# Altium footprint library PcbLibraryModelBoard.PcbLib: 17 footprints (part 2 of 2)
Each footprint in its own frame and in the unit in brackets; x right, y up, seen from the top. Pads: shape width x height; smd on the part's side, far side on the other; paste and mask are expansions set on the pad; w line width, h text height; cw(c..) or ccw(c..) is an arc to the next point about the centre after c.
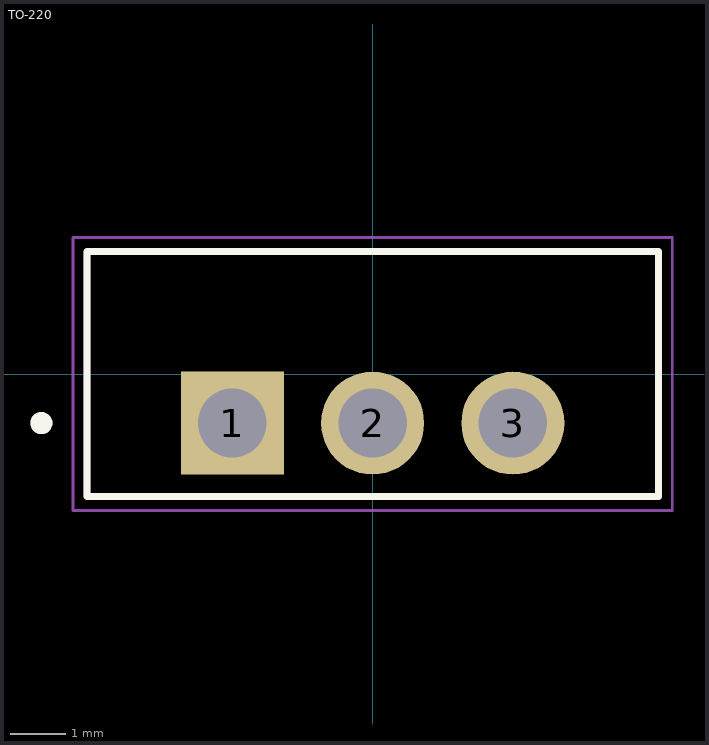
[diagram p1: the footprint, top view; thin cyan lines are the x and y axes]

## TO-220 [mil] "TO254P1035X444X2115-3N)"
height 833.07
pads (3):
  rect 73.5x73.5 / inner round 73.5 / far side rect 73.5x73.5 hole 49: 1(-100,-35)
  round 73.5 hole 49: 2(0,-35) 3(100,-35)
Top Overlay:
  circle w7.87: c-236.22,-35 r3.94
  lines w5: -203.75,-87.5 203.75,-87.5 203.75,87.5 -203.75,87.5 -203.75,-87.5
Mechanical 13:
  circle w7.87: c-236.22,-35 r3.94
  lines w5: -203.75,-87.5 203.75,-87.5 203.75,87.5 -203.75,87.5 -203.75,-87.5
Mechanical 15:
  lines w1.97: -213.59,-97.34 213.59,-97.34 213.59,97.34 -213.59,97.34 -213.59,-97.34